# EAGLE library part HDR-2X7 (library Mechanical)
100 mil spaced, 42 mil hole 2x7 header
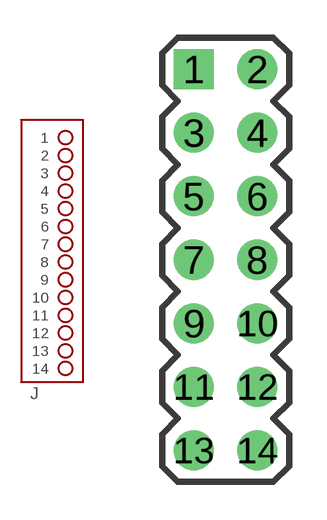
[diagram p53: symbol with the pads of HDR-2X7; footprint HDR-2X7]

Designator prefix J

## HDR-2X7  [HDR-2X7]
1  1  pas
2  2  pas
3  3  pas
4  4  pas
5  5  pas
6  6  pas
7  7  pas
8  8  pas
9  9  pas
10  10  pas
11  11  pas
12  12  pas
13  13  pas
14  14  pas

## Footprint HDR-2X7 (pad centres in mm)
drill 1.067 square: 1 -1.27,7.62
drill 1.067: 2 1.27,7.62; 3 -1.27,5.08; 4 1.27,5.08; 5 -1.27,2.54; 6 1.27,2.54; 7 -1.27,0; 8 1.27,0; 9 -1.27,-2.54; 10 1.27,-2.54; 11 -1.27,-5.08; 12 1.27,-5.08; 13 -1.27,-7.62; 14 1.27,-7.62